# Altium schematic symbol library SBComponentsSchematics.SchLib: 68 symbols
Pins are listed as number, name and electrical type; pins without a type are passive.

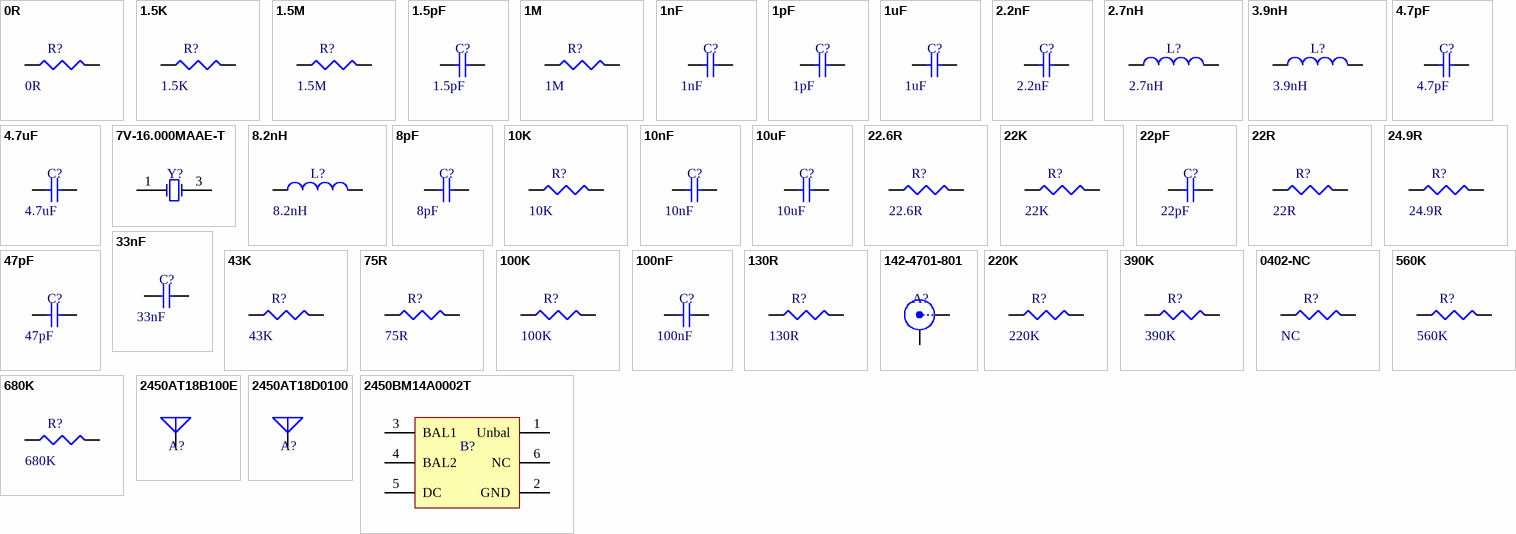
[diagram p0: symbols 0R to 2450BM14A0002T]

## 0R
designator R?
0R 0402 1/16W ±0.05R; Supplier 1: Farnell; Supplier 2: Digi-Key; Supplier Part Number 1: 2072513; Supplier Part Number 2: P0.0JCT-ND; Value: 0R
footprint 0402 (Chip Body 1.0 x 0.5 mm (LxW typ))
footprint 0603 (Chip Body 1.6 x 0.8 mm (LxW typ))
pins: 1, 2

## 1.5K
designator R?
1.5K 0402 1/16W ±1%; Supplier 1: Farnell; Supplier Part Number 1: 1653201; Supplier 2: Digi-Key; Supplier Part Number 2: 541-1.50KLCT-ND; Value: 1.5K
footprint 0402 (Chip Body 1.0 x 0.5 mm (LxW typ))
pins: 1, 2

## 1.5M
designator R?
1.5M 0402 1/16W ±1%; Supplier 1: Farnell; Supplier Part Number 1: 2141473; Supplier 2: Digi-Key; Supplier Part Number 2: 541-1.50MLCT-ND; Value: 1.5M
footprint 0402 (Chip Body 1.0 x 0.5 mm (LxW typ))
pins: 1, 2

## 1.5pF
designator C?
1.5pF 0402 NP0/CG0 50V ±0.1pF; Supplier 1: Farnell; Supplier 2: Digi-Key; Supplier Part Number 1: 2456092; Supplier Part Number 2: 490-6212-1-ND; Value: 1.5pF
footprint 0402 (Chip Body 1.0 x 0.5 mm (LxW typ))
pins: 1, 2

## 1M
designator R?
1M 0402 1/16W ±1%; Supplier 1: Farnell; Supplier Part Number 1: 2072521; Supplier 2: Digi-Key; Supplier Part Number 2: P1.00MLCT-ND; Value: 1M
footprint 0402 (Chip Body 1.0 x 0.5 mm (LxW typ))
pins: 1, 2

## 1nF
designator C?
1nF 0402 NP0 50V ±5%; Supplier 1: Farnell; Supplier 2: Digi-Key; Supplier 3: Mouser; Supplier Part Number 1: 8819556; Supplier Part Number 2: 490-3244-1-ND; Supplier Part Number 3: 81-GRM1555C1H102JA1D; Value: 1nF
footprint 0402 (Chip Body 1.0 x 0.5 mm (LxW typ))
pins: 1, 2

## 1pF
designator C?
1pF 0402 NP0/CG0 50V ±0.1pF; Supplier 1: Digi-Key; Supplier Part Number 1: 490-6206-1-ND; Value: 1pF
footprint 0402 (Chip Body 1.0 x 0.5 mm (LxW typ))
pins: 1, 2

## 1uF
designator C?
1uF 0603 X5R 10V ±10%; Supplier 1: Farnell; Supplier Part Number 1: 1759399; Supplier 2: Digi-Key; Supplier Part Number 2: 478-1251-1-ND; Value: 1uF
footprint 0603 (Chip Body 1.6 x 0.8 mm (LxW typ))
pins: 1, 2

## 2.2nF
designator C?
2.2nF 0402 X7R 50V ±10%; Supplier 1: Farnell; Supplier 2: Digi-Key; Supplier Part Number 1: 1414582; Supplier Part Number 2: 399-3068-1-ND; Value: 2.2nF
footprint 0402 (Chip Body 1.0 x 0.5 mm (LxW typ))
pins: 1, 2

## 2.7nH
designator L?
2.7nH ±0.1nH 0402; Supplier 1: Farnell; Supplier 2: Digi-Key; Supplier Part Number 1: 2103074; Supplier Part Number 2: 445-16287-1-ND; Value: 2.7nH
footprint 0402 (Chip Body 1.0 x 0.5 mm (LxW typ))
pins: 1, 2

## 3.9nH
designator L?
3.9nH ±0.1nH 0402; Supplier 1: Farnell; Supplier Part Number 1: 2103086; Supplier 2: Digi-Key; Supplier Part Number 2: 445-16303-1-ND; Value: 3.9nH
footprint 0402 (Chip Body 1.0 x 0.5 mm (LxW typ))
pins: 1, 2

## 4.7pF
designator C?
4.7pF 0402 NP0/CG0 50V ±0.25pF; Supplier 1: Farnell; Supplier 2: Digi-Key; Supplier Part Number 1: 2434644; Supplier Part Number 2: 490-5874-1-ND; Value: 4.7pF
footprint 0402 (Chip Body 1.0 x 0.5 mm (LxW typ))
pins: 1, 2

## 4.7uF
designator C?
4.7uF 0603 X5R 10V ±10%; Supplier 1: Farnell; Supplier Part Number 1: 2362098; Supplier 2: Digi-Key; Supplier Part Number 2: 445-5170-1-ND; Value: 4.7uF
footprint 0603 (Chip Body 1.6 x 0.8 mm (LxW typ))
pins: 1, 2

## 7V-16.000MAAE-T
designator Y?
TXC - 7V-16.000MAAE-T, 16MHZ, 30PPM, 12PF - CRYSTAL; Supplier 1: Digi-Key; Supplier 2: Farnell; Supplier Part Number 1: 887-1462-1-ND; Supplier Part Number 2: 1892172
footprint 3.2x2.5 CRYSTAL
pins: 1 X1, 2 GND hidden to GND, 3 X2, 4 GND hidden to GND

## 8.2nH
designator L?
8.2nH ±0.2nH 0402; Supplier 1: Farnell; Supplier 2: Digi-Key; Supplier Part Number 1: 1174124; Supplier Part Number 2: PCD1909CT-ND; Value: 8.2nH
footprint 0402 (Chip Body 1.0 x 0.5 mm (LxW typ))
pins: 1, 2

## 8pF
designator C?
8pF 0402 C0G/NP0 50V ±0.5pF; Supplier 1: Farnell; Supplier 2: Digi-Key; Supplier Part Number 1: 1758939; Supplier Part Number 2: 490-5867-1-ND; Value: 8pF
footprint 0402 (Chip Body 1.0 x 0.5 mm (LxW typ))
pins: 1, 2

## 10K
designator R?
10K 0402 1/16W ±1%; Supplier 1: Farnell; Supplier Part Number 1: 2072517; Supplier 2: Digi-Key; Supplier Part Number 2: 541-10.0KLCT-ND; Value: 10K
footprint 0402 (Chip Body 1.0 x 0.5 mm (LxW typ))
pins: 1, 2

## 10nF
designator C?
10nF 0402 X7R 25V ±5%; Supplier 1: Farnell; Supplier Part Number 1: 1692285; Supplier 2: Digi-Key; Supplier Part Number 2: 399-1279-1-ND; Value: 10nF
footprint 0402 (Chip Body 1.0 x 0.5 mm (LxW typ))
pins: 1, 2

## 10uF
designator C?
10uF 0603 X5R 6.3V ±20%; Supplier 1: Farnell; Supplier Part Number 1: 2456110; Supplier 2: Digi-Key; Supplier Part Number 2: 490-10475-1-ND; Value: 10uF
footprint 0603 (Chip Body 1.6 x 0.8 mm (LxW typ))
pins: 1, 2

## 22.6R
designator R?
22.6R 0402 1/16W ±0.05R; Supplier 1: Farnell; Supplier 2: Digi-Key; Supplier Part Number 1: 2302454; Supplier Part Number 2: P22.6LCT-ND; Value: 22.6R
footprint 0402 (Chip Body 1.0 x 0.5 mm (LxW typ))
pins: 1, 2

## 22K
designator R?, comment value 22K  (hidden comment: 22K 0402 1/16W ±1%)
Supplier 1: Farnell; Supplier 2: Digi-Key; Supplier Part Number 1: 2072781; Supplier Part Number 2: 541-22.0KLCT-ND
footprint 0402 (Chip Body 1.0 x 0.5 mm (LxW typ))
pins: 1, 2

## 22pF
designator C?
22pF 0402 NP0/CG0 50V ±5%; Supplier 1: Farnell; Supplier 2: Digi-Key; Supplier Part Number 1: 1414580; Supplier Part Number 2: 490-5868-1-ND; Value: 22pF
footprint 0402 (Chip Body 1.0 x 0.5 mm (LxW typ))
pins: 1, 2

## 22R
designator R?
22R 0402 1/16W ±1%; Supplier 1: Farnell; Supplier 2: Digi-Key; Supplier Part Number 1: 2072797; Supplier Part Number 2: 541-22.0LCT-ND; Value: 22R
footprint 0402 (Chip Body 1.0 x 0.5 mm (LxW typ))
pins: 1, 2

## 24.9R
designator R?
24.9R 0402 1/16W ±0.05R; Supplier 1: Farnell; Supplier 2: Digi-Key; Supplier Part Number 1: 2059102; Supplier Part Number 2: P24.9LCT-ND; Value: 24.9R
footprint 0402 (Chip Body 1.0 x 0.5 mm (LxW typ))
pins: 1, 2

## 33nF
designator C?
33nF 0402 X7R 50V ±10%; Supplier 1: Farnell; Supplier 2: Digi-Key; Supplier Part Number 1: 2210826; Supplier Part Number 2: 445-7334-1-ND; Value: 33nF
footprint 0402 (Chip Body 1.0 x 0.5 mm (LxW typ))
pins: 1, 2

## 43K
designator R?
43K 0402 1/16W ±1%; Supplier 1: Farnell; Supplier Part Number 1: 1358086; Supplier 2: Digi-Key; Supplier Part Number 2: 541-43.0KLCT-ND; Value: 43K
footprint 0402 (Chip Body 1.0 x 0.5 mm (LxW typ))
pins: 1, 2

## 47pF
designator C?
47pF 0402 NP0 50V ±5%; Supplier 1: Farnell; Supplier 2: Digi-Key; Supplier 3: Mouser; Supplier Part Number 1: 2434611; Supplier Part Number 2: 490-5942-1-ND; Supplier Part Number 3: 81-GRM1555C1H470JA1D; Value: 47pF
footprint 0402 (Chip Body 1.0 x 0.5 mm (LxW typ))
pins: 1, 2

## 75R
designator R?
75R 0402 1/16W ±1%; Supplier 1: Farnell; Supplier 2: Digi-Key; Supplier Part Number 1: 1458822; Supplier Part Number 2: 311-75.0LRCT-ND; Value: 75R
footprint 0402 (Chip Body 1.0 x 0.5 mm (LxW typ))
pins: 1, 2

## 100K
designator R?
100K 0402 1/16W ±1%; Supplier 1: Farnell; Supplier Part Number 1: 2072519; Supplier 2: Digi-Key; Supplier Part Number 2: 541-100KLCT-ND; Value: 100K
footprint 0402 (Chip Body 1.0 x 0.5 mm (LxW typ))
pins: 1, 2

## 100nF
designator C?
100nF 0402 X7R 16V ±10%; Supplier 1: Farnell; Supplier Part Number 1: 1288252; Supplier 2: Digi-Key; Supplier Part Number 2: 399-3521-1-ND; Value: 100nF
footprint 0402 (Chip Body 1.0 x 0.5 mm (LxW typ))
pins: 1, 2

## 130R
designator R?
130R 0402 1/16W ±0.05R; Supplier 1: Farnell; Supplier 2: Digi-Key; Supplier Part Number 1: 2059115; Supplier Part Number 2: P130LCT-ND; Value: 130R
footprint 0402 (Chip Body 1.0 x 0.5 mm (LxW typ))
pins: 1, 2

## 142-4701-801
designator A?  (value not drawn)
JOHNSON  142-4701-801  SMA FEMELLE REVERSE POLARITY TERMINAISON; Supplier 1: Farnell; Supplier Part Number 1: 2340523; Supplier 2: Digi-Key; Supplier Part Number 2: J917-ND
footprint 142-4701-801
pins: 1 X, 2 Y

## 220K
designator R?  value 220K
220K 0402 1/16W ±1%; Supplier 1: Farnell; Supplier 2: Digi-Key; Supplier Part Number 1: 9239510; Supplier Part Number 2: 311-220KLRCT-ND; Supplier 3: Mouser; Supplier Part Number 3: 603-RC0402FR-07220KL
footprint 0402 (Chip Body 1.0 x 0.5 mm (LxW typ))
pins: 1, 2

## 390K
designator R?  value 390K
390K 0402 1/16W ±1%; Supplier 1: Farnell; Supplier 2: Digi-Key; Supplier Part Number 1: 2302905; Supplier Part Number 2: P390KLCT-ND; Supplier 3: Mouser; Supplier Part Number 3: 667-ERJ-2RKF3903X
footprint 0402 (Chip Body 1.0 x 0.5 mm (LxW typ))
pins: 1, 2

## 0402-NC
designator R?  value NC  (hidden comment: 0402-NC)
NOT CONNECTED
footprint 0402 - NOBODY (Chip Body 1.0 x 0.5 mm (LxW typ))
pins: 1, 2

## 560K
designator R?
560K 0402 1/16W ±1%; Supplier 1: Farnell; Supplier Part Number 1: 2074116; Supplier 2: Digi-Key; Supplier Part Number 2: 311-560KLRCT-ND; Value: 560K
footprint 0402 (Chip Body 1.0 x 0.5 mm (LxW typ))
pins: 1, 2

## 680K
designator R?  value 680K
680K 0402 1/16W ±1%; Supplier 1: Farnell; Supplier 2: Digi-Key; Supplier Part Number 1: 2302935; Supplier Part Number 2: P680KLCT-ND; Supplier 3: Mouser; Supplier Part Number 3: 667-ERJ-2RKF6803X
footprint 0402 (Chip Body 1.0 x 0.5 mm (LxW typ))
pins: 1, 2

## 2450AT18B100E
designator A?  (value not drawn)
JOHANSON TECHNOLOGY 2450AT18B100E  ANTENNA, CERAMIC, 2.45GHZ; Supplier 1: Farnell; Supplier Part Number 1: 1885497; Supplier 2: Digi-Key; Supplier Part Number 2: 712-1006-1-ND
footprint 2450AT18B100E (ANTENNA CHIP 2.4GHZ)
pins: 1 A

## 2450AT18D0100
designator A?  (value not drawn)
JOHANSON TECHNOLOGY 2450AT18D0100  ANTENNA, CERAMIC, 2.45GHZ; Supplier 1: Mouser; Supplier 2: Digi-Key; Supplier Part Number 1: 609-2450AT18D0100E; Supplier Part Number 2: 712-1573-1-ND
footprint 2450AT18D0100 (ANTENNA CHIP 2.4GHZ)
pins: 1 A, 2 GND hidden to GND

## 2450BM14A0002T
designator B?  (value not drawn)
Johanson Technology Impedance Matched Balun Filter Integrated Passive for nRF24L01; Supplier 1: Farnell; Supplier 2: Digi-Key; Supplier Part Number 1: 2148533; Supplier Part Number 2: 712-1574-1-ND
footprint 2450BM14A0002 (2.45 GHz Impedance Matched Balun-Filter: Optimized for Nordic's Chipset nRF24L01)
pins: 1 Unbal, 2 GND, 3 BAL1, 4 BAL2, 5 DC, 6 NC

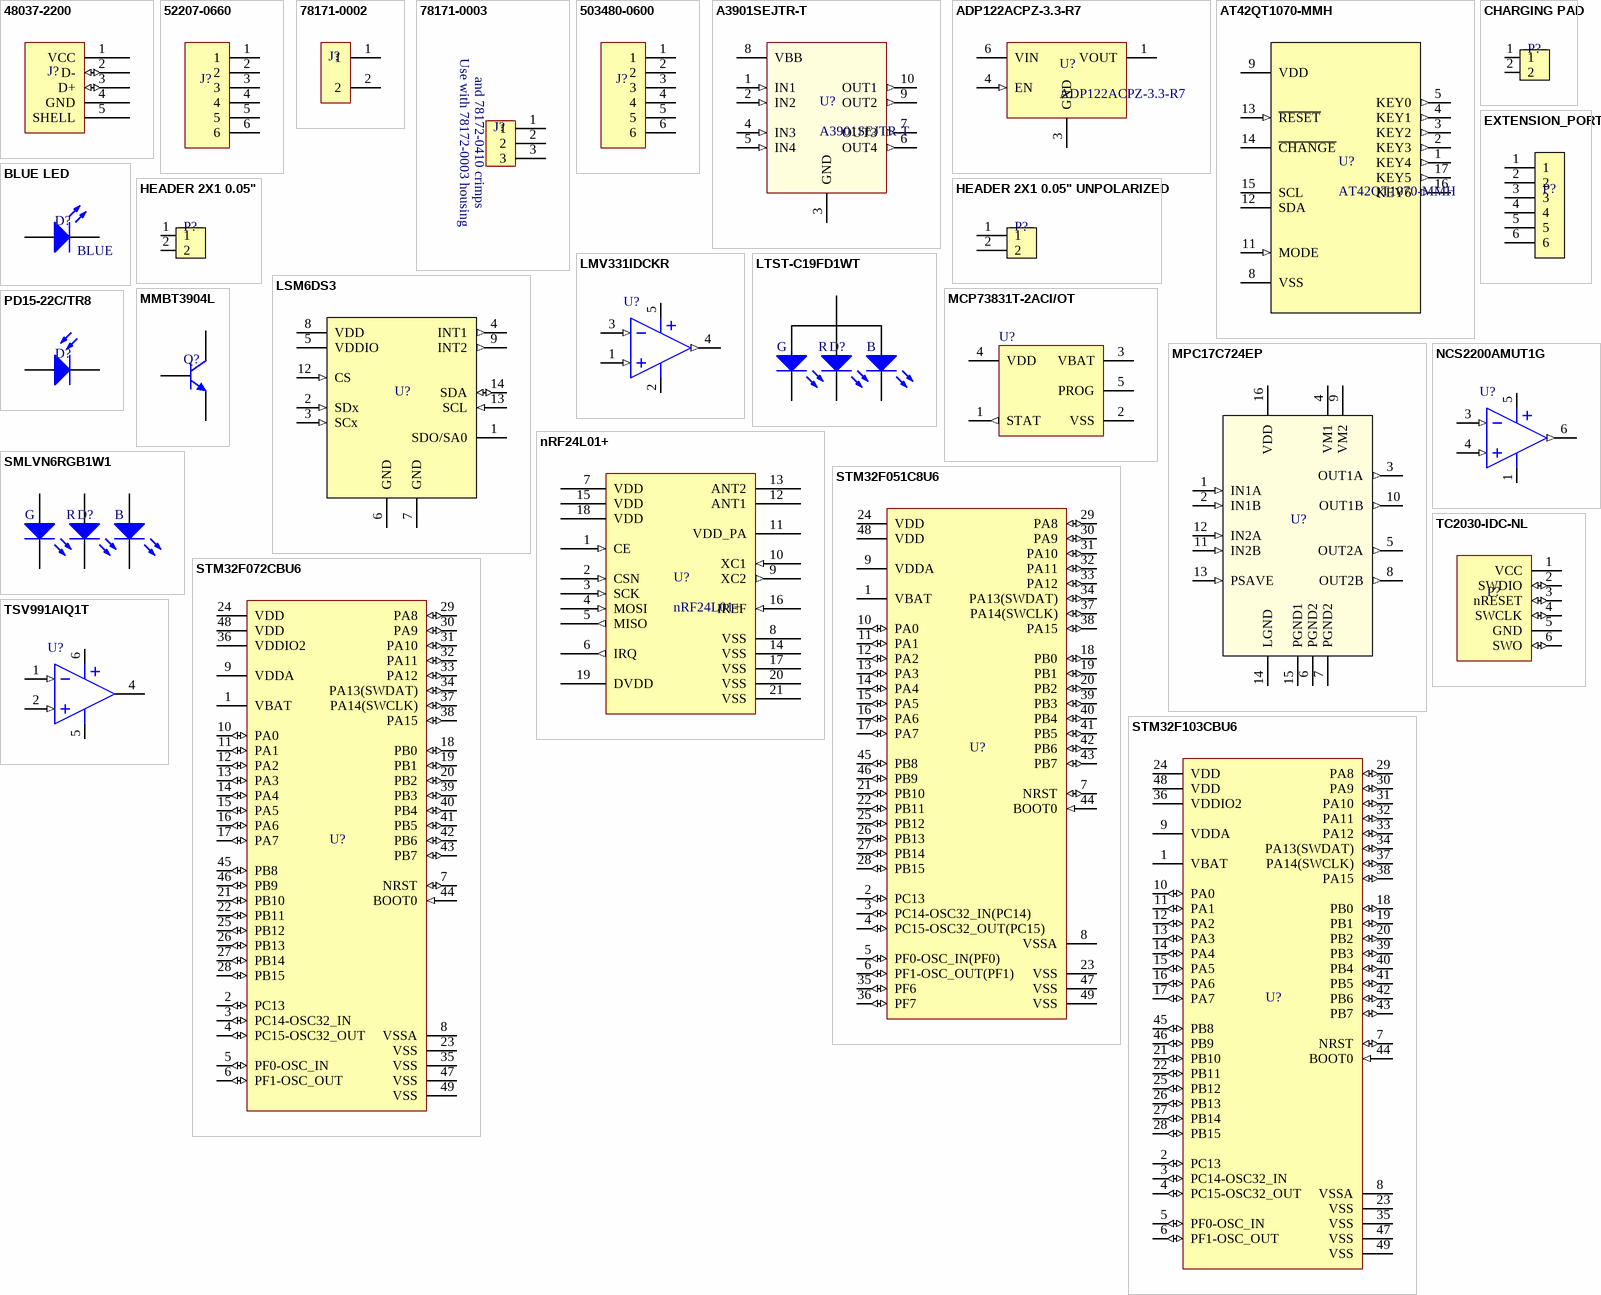
[diagram p1: symbols 48037-2200 to TSV991AIQ1T]

## 48037-2200
designator J?  (value not drawn)
Molex USB 2.0 Connector Plug USB Type A; Supplier 1: Farnell; Supplier 2: Digi-Key; Supplier Part Number 1: 2313729; Supplier Part Number 2: WM3983CT-ND
footprint 48037-2200 (Molex 48037-2200 USB Type A Receptacle)
pins: 1 VCC (power), 2 D- (io), 3 D+ (io), 4 GND (power), 5 SHELL (power)

## 52207-0660
designator J?  (value not drawn)
Easy-On™ Type FFC/FPC Connector, Right-Angle, Surface Mount, ZIF, Top Contact Style Receptacle, 6 Circuits, Gold (Au) Contact Plating, High Barrier Packaging; Supplier 1: Farnell; Supplier 2: Digi-Key; Supplier Part Number 1: 1757074; Supplier Part Number 2: WM10939CT-ND
pins: 1, 2, 3, 4, 5, 6

## 78171-0002
designator J?  (value not drawn)
Molex Pico-EZmate™ Wire-to-Board Header, 2 contacts; Supplier 1: Farnell; Supplier 2: Digi-Key; Supplier Part Number 1: 2313710; Supplier Part Number 2: WM4459CT-ND
footprint 78171-0002
pins: 1, 2

## 78171-0003
designator J?  (value not drawn)
Molex Pico-EZmate™ Wire-to-Board Header, 3 contacts; Supplier 1: Farnell; Supplier 2: Digi-Key; Supplier Part Number 1: 2313562; Supplier Part Number 2: WM5409CT-ND
footprint 78171-0003
pins: 1, 2, 3
text: Use with 78172-0003 housing; and 78172-0410 crimps

## 503480-0600
designator J?  (value not drawn)
Molex 0.50mm Pitch Easy-On™ BackFlip™ Type FPC Connector, 6 contacts; Supplier 1: Farnell; Supplier 2: Digi-Key; Supplier Part Number 1: 2396222; Supplier Part Number 2: WM1387CT-ND
footprint 503480-0600
pins: 1, 2, 3, 4, 5, 6

## A3901SEJTR-T
designator U?
ALLEGRO MICROSYSTEMS - A3901SEJTR-T - IC, MOTOR DRIVER; Supplier 1: Farnell; Supplier 2: Digi-Key; Supplier Part Number 1: 1651947; Supplier Part Number 2: 620-1159-1-ND
footprint DFN50P300X300X75_HS-11N
pins: 1 IN1 (in), 2 IN2 (in), 3 GND (power), 4 IN3 (in), 5 IN4 (in), 6 OUT4 (out), 7 OUT3 (out), 8 VBB (power), 9 OUT2 (out), 10 OUT1 (out), 11 PAD (power) hidden to GND

## ADP122ACPZ-3.3-R7
designator U?
Analog Devices ADP122ACPZ-3.3-R7 - 5.5 V Input, 300 mA, Low Quiescent  Current, CMOS Linear Regulator; Supplier 1: Farnell; Supplier 2: Digi-Key; Supplier Part Number 1: 2457164; Supplier Part Number 2: ADP122ACPZ-3.3-R7CT-ND
footprint LFCSP-6 2.0X2.0X0.55 (. 6-Lead Lead Frame Chip Scale Package [LFCSP_UD]  2.00 mm× 2.00 mm Body, Ultra Thin, Dual Lead  (CP-6-3))
pins: 1 VOUT (power) "Regulated Output Voltage.", 2 NC hidden to GND "No Connect. These pins are not internally bonded. They can be left floating or connected  to ground.", 3 GND (power) "Ground", 4 EN (in) "N Enable Input. Drive EN high to turn on the regulator; drive EN low to turn off the  regulator. For automatic startup, connect EN to VIN.", 5 NC hidden to GND "No Connect. These pins are not internally bonded. They can be left floating or connected  to ground.", 6 VIN (power) "Regulator Input Supply.", 7 THPAD hidden to GND "Thermal Pad"

## AT42QT1070-MMH
designator U?
Atmel Seven-channel QTouch® Touch Sensor IC; Supplier 1: Digi-Key; Supplier Part Number 1: AT42QT1070-MMHCT-ND
footprint QFN45P300X300X85_HS-21L (QFN, 20-Leads, Body 3.00x3.00mm, Pitch 0.45mm, Thermal Pad 1.55x1.55mm, IPC High Density)
pins: 1 KEY4 (out), 2 KEY3 (out), 3 KEY2 (out), 4 KEY1 (out), 5 KEY0 (out), 6 NC hidden, 7 NC hidden, 8 VSS (power), 9 VDD (power), 10 NC hidden, 11 MODE (in), 12 SDA (oc), 13 ~{RESET} (in), 14 ~{CHANGE} (oc), 15 SCL (oc), 16 KEY6 (out), 17 KEY5 (out), 18 NC hidden, 19 NC hidden, 20 NC hidden, 21 PAD (power) hidden to GND

## BLUE LED
designator D?  value BLUE
BRIGHT BLUE LED 20mA; Supplier 1: Farnell; Supplier Part Number 1: 1716770; Supplier 2: Digi-Key; Supplier Part Number 2: 160-1646-1-ND
footprint 0603 - LED (Chip Body 1.6 x 0.8 mm (LxW typ))
pins: 1 A, 2 K

## CHARGING PAD
designator P?  (value not drawn)
footprint Charging Pad
pins: 1, 2

## EXTENSION_PORT
designator P?  (value not drawn)
footprint EXTENSION_PORT
pins: 1, 2, 3, 4, 5, 6

## HEADER 2X1 0.05"
designator P?  (value not drawn)
footprint HEADER 2X1 0.05" (Footprint not found)
pins: 1, 2

## HEADER 2X1 0.05" UNPOLARIZED
designator P?  (value not drawn)
footprint HEADER 2X1 0.05" - UNPOLARIZED
pins: 1, 2

## LMV331IDCKR
designator U?
TI LMV331 Single General-purpose Low-voltage Comparators; Supplier 1: Farnell; Supplier 2: Mouser; Supplier 3: Digi-Key; Supplier Part Number 1: 2395896; Supplier Part Number 2: 595-LMV331IDCKR; Supplier Part Number 3: 296-6634-1-ND
footprint SC70-5
pins: 1 IN+ (in), 2 GND (power), 3 IN- (in), 4 OUT (out), 5 VCC (power)

## LSM6DS3
designator U?
STMicroelectronics iNEMO inertial module:   3D accelerometer and 3D gyroscope; Supplier 1: Farnell; Supplier 2: Digi-Key; Supplier Part Number 1: 2474253; Supplier Part Number 2: 497-15383-1-ND
footprint LGA-14 2.5x3x0.86 mm 14L (LGA, 14-Leads, Body 3.00x2.50mm, Pitch 0.50mm, IPC High Density)
pins: 1  SDO/SA0 (power), 2 SDx (in), 3 SCx (in), 4 INT1 (out), 5 VDDIO (power), 6 GND (power), 7 GND (power), 8 VDD (power), 9 INT2 (out), 10 OCS hidden, 11 NC hidden, 12 CS (in), 13 SCL (in), 14 SDA (io)

## LTST-C19FD1WT
designator D?
Lite-On Inc. LTST-C19FD1WT; Supplier 1: Digi-Key; Supplier Part Number 1: 160-2022-1-ND
footprint 2.1X1.6X0.55_4SMD
pins: 1 KB, 2 KR, 3 KG, 4 A
text: G; R; B

## MCP73831T-2ACI/OT
designator U?
Miniature Single-Cell, Fully Integrated Li-Ion, Li-Polymer Charge Management Controller, 4.2V, 5-Pin SOT-23, Industrial Temperature, Tape and Reel; Published: 29-Jan-2009; LatestRevisionDate: 27-Nov-2009; LatestRevisionNote: Updated to datasheet revision E, Sep-2008; DatasheetVersion: revE, Sep-2008; PackageVersion: revBB, Aug-2009; PackageReference: SOT-23-OT5; Publisher: Altium Limited; PackageDescription: 5-Lead Plastic Small Outline Transistor (OT) [SOT-23]; Code_IPC: SOT23-5; ComponentLink1Description: Datasheet; ComponentLink1URL: http://ww1.microchip.com/downloads/en/DeviceDoc/21984e.pdf; ComponentLink2Description: Packaging Specification; ComponentLink2URL: http://www.microchip.com/stellent/groups/techpub_sg/documents/packagingspec/en012702.pdf; ComponentLink3Description: Microchip.com Home; ComponentLink3URL: http://www.microchip.com/; Supplier 1: Farnell; Supplier Part Number 1: 1332158
footprint SOT-23-OT5_N (SOT23, 5-Leads, Body 2.9x1.6mm, Pitch 0.95mm, Lead Span 2.7mm, IPC Medium Density)
footprint SOT-23-OT5_L (SOT23, 5-Leads, Body 2.9x1.6mm, Pitch 0.95mm, Lead Span 2.7mm, IPC High Density)
footprint SOT-23-OT5_M (SOT23, 5-Leads, Body 2.9x1.6mm, Pitch 0.95mm, Lead Span 2.7mm, IPC Low Density)
pins: 1 STAT (out), 2 VSS (power), 3 VBAT (power), 4 VDD (power), 5 PROG

## MMBT3904L
designator Q?  (value not drawn)
On Semiconductor MMBT3904L General Purpose Transistor  NPN Silicon; Supplier 1: Farnell; Supplier 2: Digi-Key; Supplier Part Number 1: 1459100; Supplier Part Number 2: MMBT3904LT1GOSCT-ND
footprint SOT23_L (SOT23, 3-Leads, Body 2.9x1.3mm, Pitch 0.95mm, Lead Span 2.3mm - Reverse Pinning, IPC High Density)
pins: 1 B, 2 E, 3 C

## MPC17C724EP
designator U?
Fresscale Semiconductor MPC17C724EP 0.4 A Dual H-Bridge Motor Driver IC; Supplier 1: Digi-Key; Supplier Part Number 1: MPC17C724EP-ND
footprint QFN50P300X300X90_HS-17L (QFN, 16-Leads, Body 3,00x3,00mm, Pitch 0,50mm, Thermal Pad 1,70x1,70mm, IPC High Density)
pins: 1 IN1A (in) "Logic Input Control 1A", 2 IN1B (in) "Logic Input Control 2A", 3 OUT1A (out) "H-Bridge Output 1A", 4 VM1 (power) "Motor Driver Power Supply 1", 5 OUT2A (out) "H-Bridge Output 2A", 6 PGND2 "Power Ground 2", 7 PGND2 "Power Ground 2", 8 OUT2B (out) "H-Bridge Output 2B", 9 VM2 (power) "Motor Driver Power Supply 2", 10 OUT1B (out) "H-Bridge Output 1B", 11 IN2B (in) "Logic Input Control 2B", 12 IN2A (in) "Logic Input Control 2A", 13 PSAVE (in) "Input Enable Control", 14 LGND "Logic Ground", 15 PGND1 "Power Ground 1", 16 VDD (power) "Logic Circuit Power Supply"

## NCS2200AMUT1G
designator U?
Low Voltage Comparator; Supplier 1: Farnell; Supplier 2: Mouser; Supplier 3: Digi-Key; Supplier Part Number 1: 1369752; Supplier Part Number 2: 863-NCS2200AMUT1G; Supplier Part Number 3: NCS2200AMUT1GOSCT-ND
footprint UDFN6-1.2x1.0
pins: 1 GND (power), 3 IN- (in), 4 IN+ (in), 5 VCC (power), 6 OUT (out)

## nRF24L01+
designator U?
Nordic Semi Ultra low power 2.4GHz RF Transceiver IC; Supplier 1: Digi-Key; Supplier Part Number 1: 1490-1033-1-ND
footprint QFN50P400X400X95_HS-21L (QFN, 20-Leads, Body 4,00x4,00mm, Pitch 0,50mm, Thermal Pad 2,60x2,60mm, IPC High Density)
pins: 1 CE (in) "Chip Enable Activates RX or TX mode", 2 CSN (in) "SPI Chip Select", 3 SCK (in) "SPI Clock", 4 MOSI (in) "SPI Slave Data Input", 5 MISO (out) "SPI Slave Data Output, with tri-state option", 6 IRQ (out) "Maskable interrupt pin. Active low", 7 VDD (power) "Power Supply (+1.9V - +3.6V DC)", 8 VSS (power) "Ground (0V)", 9 XC2 (out) "Crystal Pin 2", 10 XC1 (in) "Crystal Pin 1", 11 VDD_PA (power) "Power Supply Output (+1.8V) for the internal  nRF24L01+ Power Amplifier. Must be connected  to ANT1 and ANT2 as shown in Figure 32", 12 ANT1 "Antenna interface 1", 13 ANT2 "Antenna interface 1", 14 VSS (power) "Ground (0V)", 15 VDD (power) "Power Supply (+1.9V - +3.6V DC)", 16 IREF (in) "Reference current. Connect a 22kΩ resistor to  ground. See Figure 32.", 17 VSS (power) "Ground (0V)", 18 VDD (power) "Power Supply (+1.9V - +3.6V DC)", 19 DVDD (power) "Internal digital supply output for de-coupling purposes.  See Figure 32.", 20 VSS (power) "Ground (0V)", 21 VSS (power) "Ground (0V) - Thermal Pad"

## PD15-22C/TR8
designator D?  (value not drawn)
Everlight PD15-22C/TR8 Silicon PIN Photodiode; Supplier 1: Digi-Key; Supplier Part Number 1: 1080-1367-1-ND; Supplier 2: Mouser; Supplier Part Number 2: 638-PD15-22C/TR8
footprint PD15-22C/TR8 (Silicon PIN Photodiode)
pins: 1 A, 2 K

## SMLVN6RGB1W1
designator D?
ROHM SMLVN6RGB1W1 LED Tri-Color Blue/Green/Red Chip LED 6-Pin 1411 T/RLED Tri-Color Blue/Green/Red Chip LED 6-Pin 1411; Supplier 1: Mouser; Supplier 2: Digi-Key; Supplier Part Number 1: 755-SMLVN6RGB1W1; Supplier Part Number 2: 846-1187-1-ND
footprint 3.5x2.8 mm 6-SMD (3.5 x 2.8 mm 6-SMD Flat Leads)
pins: 1 AB, 2 AR, 3 AG, 4 KG, 5 KR, 6 KB
text: G; R; B

## STM32F051C8U6
designator U?
STMICROELECTRONICS  STM32F051C8U6  MCU 32BIT CORTEX-M0 48MHZ UFQFPN-48; Supplier 1: Farnell; Supplier 2: Digi-Key; Supplier Part Number 1: 2393638; Supplier Part Number 2: STM32F051C8U6-ND
footprint QFN50P700X700X60_HS-49L (QFN, 48-Leads, Body 7,00x7,00mm, Pitch 0,50mm, Thermal Pad 5,60x5,60mm, IPC High Density)
pins: 1 VBAT (power) "Backup power supply", 2 PC13 (io) "PC13/RTC_TAMP1,RTC_TS,RTC_OUT,WKUP2", 3 PC14-OSC32_IN(PC14) (io) "PC14-OSC32_IN(PC14)/OSC32_IN", 4 PC15-OSC32_OUT(PC15) (io) "PC15-OSC32_OUT(PC15)/OSC32_OUT", 5 PF0-OSC_IN(PF0) (io) "PF0-OSC_IN(PF0)/OSC_IN", 6 PF1-OSC_OUT(PF1) (io) "PF1-OSC_OUT(PF1)/OSC_OUT", 7 NRST (io) "Device  reset  input  /  internal  reset  output  (active  low)", 8 VSSA (power) "Analog ground", 9 VDDA (power) "Analog power supply", 10 PA0 (io) "PA0/USART2_CTS,TIM2_CH1_ETR,COMP1_OUT,TSC_G1_IO1/ADC_IN0,COMP1_INM6,RTC_TAMP2,WKUP1", 11 PA1 (io) "PA1/USART2_RTS,TIM2_CH2,TSC_G1_IO2,EVENTOUT/ADC_IN1,COMP1_INP", 12 PA2 (io) "PA2/USART2_TX,TIM2_CH3,TIM15_CH1,COMP2_OUT,TSC_G1_IO3/ADC_IN2,COMP2_INM6", 13 PA3 (io) "PA3/USART2_RX,TIM2_CH4,TIM15_CH2,TSC_G1_IO4/ADC_IN3,COMP2_INP", 14 PA4 (io) "PA4/SPI1_NSS/I2S1_WS,USART2_CK,TIM14_CH1,TSC_G2_IO1/ADC_IN4,COMP1_INM4,COMP2_INM4,DAC1_OUT", 15 PA5 (io) "PA5/SPI1_SCK/I2S1_CK,CEC,TIM2_CH1_ETR,TSC_G2_IO2/ADC_IN5,COMP1_INM5,COMP2_INM5", 16 PA6 (io) "PA6/SPI1_MISO/I2S1_MCK,TIM3_CH1,TIM1_BKIN,TIM16_CH1,COMP1_OUT,TSC_G2_IO3,EVENTOUT/ADC_IN6", 17 PA7 (io) "PA7/SPI1_MOSI/I2S1_SD,TIM3_CH2,TIM14_CH1,TIM1_CH1N,TIM17_CH1,COMP2_OUT,TSC_G2_IO4,EVENTOUT/ADC_IN7", 18 PB0 (io) "PB0/TIM3_CH3,TIM1_CH2N,TSC_G3_IO2,EVENTOUT/ADC_IN8", 19 PB1 (io) "PB1/TIM3_CH4,TIM14_CH1,TIM1_CH3N,TSC_G3_IO3/ADC_IN9", 20 PB2 (io) "PB2/TSC_G3_IO4", 21 PB10 (io) "PB10/I2C2_SCL,CEC,TIM2_CH3,TSC_SYNC", 22 PB11 (io) "PB11/I2C2_SDA,TIM2_CH4,TSC_G6_IO1,EVENTOUT", 23 VSS (power) "Ground", 24 VDD (power) "Digital power supply", 25 PB12 (io) "PB12/SPI2_NSS,TIM1_BKIN,TSC_G6_IO2,EVENTOUT", 26 PB13 (io) "PB13/SPI2_SCK,TIM1_CH1N,TSC_G6_IO3", 27 PB14 (io) "PB14/SPI2_MISO,TIM1_CH2N,TIM15_CH1,TSC_G6_IO4", 28 PB15 (io) "PB15/SPI2_MOSI,TIM1_CH3N,TIM15_CH1N,TIM15_CH2/RTC_REFIN", 29 PA8 (io) "PA8/USART1_CK,TIM1_CH1,EVENTOUT,MCO", 30 PA9 (io) "PA9/USART1_TX,TIM1_CH2,TIM15_BKIN,TSC_G4_IO1", 31 PA10 (io) "PA10/USART1_RX,TIM1_CH3,TIM17_BKIN,TSC_G4_IO2", 32 PA11 (io) "PA11/USART1_CTS,TIM1_CH4,COMP1_OUT,TSC_G4_IO3,EVENTOUT", 33 PA12 (io) "PA12/USART1_RTS,TIM1_ETR,COMP2_OUT,TSC_G4_IO4,EVENTOUT", 34 PA13(SWDAT) (io) "PA13(SWDAT)/IR_OUT,SWDAT", 35 PF6 (io) "PF6/I2C2_SCL", 36 PF7 (io) "PF7/I2C2_SDA", 37 PA14(SWCLK) (io) "PA14(SWCLK)/USART2_TX,SWCLK", 38 PA15 (io) "PA15/SPI1_NSS/I2S1_WS,USART2_RX,TIM2_CH1_ETR,EVENTOUT", 39 PB3 (io) "PB3/SPI1_SCK/I2S1_CK,TIM2_CH2,TSC_G5_IO1,EVENTOUT", 40 PB4 (io) "PB4/SPI1_MISO/I2S1_MCK,TIM3_CH1,TSC_G5_IO2,EVENTOUT", 41 PB5 (io) "PB5/SPI1_MOSI,I2S1_SD,I2C1_SMBA,TIM16_BKIN,TIM3_CH2", 42 PB6 (io) "PB6/I2C1_SCL,USART1_TX,TIM16_CH1N,TSC_G5_IO3", 43 PB7 (io) "PB7/I2C1_SDA,USART1_RX,TIM17_CH1N,TSC_G5_IO4", 44 BOOT0 (in) "Boot memory selection", 45 PB8 (io) "PB8/I2C1_SCL,CEC,TIM16_CH1,TSC_SYNC", 46 PB9 (io) "PB9/I2C1_SDA,IR_OUT,TIM17_CH1,EVENTOUT", 47 VSS (power) "Ground", 48 VDD (power) "Digital power supply", 49 VSS (power) "Grounded Thermal Pad"

## STM32F072CBU6
designator U?
STMICROELECTRONICS  STM32F072CBU6  MCU 32 BITS CORTEX-M0 48MHZ UFQFPN-48; Supplier 1: Farnell; Supplier 2: Digi-Key; Supplier Part Number 1: 2432095; Supplier Part Number 2: 497-14646-ND
footprint QFN50P700X700X60_HS-49L (QFN, 48-Leads, Body 7,00x7,00mm, Pitch 0,50mm, Thermal Pad 5,60x5,60mm, IPC High Density)
pins: 1 VBAT (power) "Backup power supply", 2 PC13 (io) "PC13/RTC_TAMP1,RTC_TS,RTC_OUT,WKUP2", 3 PC14-OSC32_IN (io) "PC14-OSC32_IN(PC14)/OSC32_IN", 4 PC15-OSC32_OUT (io) "PC15-OSC32_OUT(PC15)/OSC32_OUT", 5 PF0-OSC_IN (io) "PF0-OSC_IN(PF0)/OSC_IN", 6 PF1-OSC_OUT (io) "PF1-OSC_OUT(PF1)/OSC_OUT", 7 NRST (io) "Device  reset  input  /  internal  reset  output  (active  low)", 8 VSSA (power) "Analog ground", 9 VDDA (power) "Analog power supply", 10 PA0 (io) "PA0/USART2_CTS,TIM2_CH1_ETR,COMP1_OUT,TSC_G1_IO1/ADC_IN0,COMP1_INM6,RTC_TAMP2,WKUP1", 11 PA1 (io) "PA1/USART2_RTS,TIM2_CH2,TSC_G1_IO2,EVENTOUT/ADC_IN1,COMP1_INP", 12 PA2 (io) "PA2/USART2_TX,TIM2_CH3,TIM15_CH1,COMP2_OUT,TSC_G1_IO3/ADC_IN2,COMP2_INM6", 13 PA3 (io) "PA3/USART2_RX,TIM2_CH4,TIM15_CH2,TSC_G1_IO4/ADC_IN3,COMP2_INP", 14 PA4 (io) "PA4/SPI1_NSS/I2S1_WS,USART2_CK,TIM14_CH1,TSC_G2_IO1/ADC_IN4,COMP1_INM4,COMP2_INM4,DAC1_OUT", 15 PA5 (io) "PA5/SPI1_SCK/I2S1_CK,CEC,TIM2_CH1_ETR,TSC_G2_IO2/ADC_IN5,COMP1_INM5,COMP2_INM5", 16 PA6 (io) "PA6/SPI1_MISO/I2S1_MCK,TIM3_CH1,TIM1_BKIN,TIM16_CH1,COMP1_OUT,TSC_G2_IO3,EVENTOUT/ADC_IN6", 17 PA7 (io) "PA7/SPI1_MOSI/I2S1_SD,TIM3_CH2,TIM14_CH1,TIM1_CH1N,TIM17_CH1,COMP2_OUT,TSC_G2_IO4,EVENTOUT/ADC_IN7", 18 PB0 (io) "PB0/TIM3_CH3,TIM1_CH2N,TSC_G3_IO2,EVENTOUT/ADC_IN8", 19 PB1 (io) "PB1/TIM3_CH4,TIM14_CH1,TIM1_CH3N,TSC_G3_IO3/ADC_IN9", 20 PB2 (io) "PB2/TSC_G3_IO4", 21 PB10 (io) "PB10/I2C2_SCL,CEC,TIM2_CH3,TSC_SYNC", 22 PB11 (io) "PB11/I2C2_SDA,TIM2_CH4,TSC_G6_IO1,EVENTOUT", 23 VSS (power) "Ground", 24 VDD (power) "Digital power supply", 25 PB12 (io) "PB12/SPI2_NSS,TIM1_BKIN,TSC_G6_IO2,EVENTOUT", 26 PB13 (io) "PB13/SPI2_SCK,TIM1_CH1N,TSC_G6_IO3", 27 PB14 (io) "PB14/SPI2_MISO,TIM1_CH2N,TIM15_CH1,TSC_G6_IO4", 28 PB15 (io) "PB15/SPI2_MOSI,TIM1_CH3N,TIM15_CH1N,TIM15_CH2/RTC_REFIN", 29 PA8 (io) "PA8/USART1_CK,TIM1_CH1,EVENTOUT,MCO", 30 PA9 (io) "PA9/USART1_TX,TIM1_CH2,TIM15_BKIN,TSC_G4_IO1", 31 PA10 (io) "PA10/USART1_RX,TIM1_CH3,TIM17_BKIN,TSC_G4_IO2", 32 PA11 (io) "PA11/USART1_CTS,TIM1_CH4,COMP1_OUT,TSC_G4_IO3,EVENTOUT", 33 PA12 (io) "PA12/USART1_RTS,TIM1_ETR,COMP2_OUT,TSC_G4_IO4,EVENTOUT", 34 PA13(SWDAT) (io) "PA13(SWDAT)/IR_OUT,SWDAT", 35 VSS (power) "Ground", 36 VDDIO2 (power) "Digital power supply", 37 PA14(SWCLK) (io) "PA14(SWCLK)/USART2_TX,SWCLK", 38 PA15 (io) "PA15/SPI1_NSS/I2S1_WS,USART2_RX,TIM2_CH1_ETR,EVENTOUT", 39 PB3 (io) "PB3/SPI1_SCK/I2S1_CK,TIM2_CH2,TSC_G5_IO1,EVENTOUT", 40 PB4 (io) "PB4/SPI1_MISO/I2S1_MCK,TIM3_CH1,TSC_G5_IO2,EVENTOUT", 41 PB5 (io) "PB5/SPI1_MOSI,I2S1_SD,I2C1_SMBA,TIM16_BKIN,TIM3_CH2", 42 PB6 (io) "PB6/I2C1_SCL,USART1_TX,TIM16_CH1N,TSC_G5_IO3", 43 PB7 (io) "PB7/I2C1_SDA,USART1_RX,TIM17_CH1N,TSC_G5_IO4", 44 BOOT0 (in) "Boot memory selection", 45 PB8 (io) "PB8/I2C1_SCL,CEC,TIM16_CH1,TSC_SYNC", 46 PB9 (io) "PB9/I2C1_SDA,IR_OUT,TIM17_CH1,EVENTOUT", 47 VSS (power) "Ground", 48 VDD (power) "Digital power supply", 49 VSS (power) "Ground"

## STM32F103CBU6
designator U?
STMICROELECTRONICS  STM32F103CBU6 ARM Cortex-M3, 72 MHz, 128 KB, 20 KB, 48, VFQFPN; Supplier 1: Farnell; Supplier 2: Mouser; Supplier Part Number 1: 2060891; Supplier Part Number 2: 511-STM32F103CBU6
footprint QFN50P700X700X60_HS-49L (QFN, 48-Leads, Body 7,00x7,00mm, Pitch 0,50mm, Thermal Pad 5,60x5,60mm, IPC High Density)
pins: 1 VBAT (power) "Backup power supply", 2 PC13 (io) "PC13/RTC_TAMP1,RTC_TS,RTC_OUT,WKUP2", 3 PC14-OSC32_IN (io) "PC14-OSC32_IN(PC14)/OSC32_IN", 4 PC15-OSC32_OUT (io) "PC15-OSC32_OUT(PC15)/OSC32_OUT", 5 PF0-OSC_IN (io) "PF0-OSC_IN(PF0)/OSC_IN", 6 PF1-OSC_OUT (io) "PF1-OSC_OUT(PF1)/OSC_OUT", 7 NRST (io) "Device  reset  input  /  internal  reset  output  (active  low)", 8 VSSA (power) "Analog ground", 9 VDDA (power) "Analog power supply", 10 PA0 (io) "PA0/USART2_CTS,TIM2_CH1_ETR,COMP1_OUT,TSC_G1_IO1/ADC_IN0,COMP1_INM6,RTC_TAMP2,WKUP1", 11 PA1 (io) "PA1/USART2_RTS,TIM2_CH2,TSC_G1_IO2,EVENTOUT/ADC_IN1,COMP1_INP", 12 PA2 (io) "PA2/USART2_TX,TIM2_CH3,TIM15_CH1,COMP2_OUT,TSC_G1_IO3/ADC_IN2,COMP2_INM6", 13 PA3 (io) "PA3/USART2_RX,TIM2_CH4,TIM15_CH2,TSC_G1_IO4/ADC_IN3,COMP2_INP", 14 PA4 (io) "PA4/SPI1_NSS/I2S1_WS,USART2_CK,TIM14_CH1,TSC_G2_IO1/ADC_IN4,COMP1_INM4,COMP2_INM4,DAC1_OUT", 15 PA5 (io) "PA5/SPI1_SCK/I2S1_CK,CEC,TIM2_CH1_ETR,TSC_G2_IO2/ADC_IN5,COMP1_INM5,COMP2_INM5", 16 PA6 (io) "PA6/SPI1_MISO/I2S1_MCK,TIM3_CH1,TIM1_BKIN,TIM16_CH1,COMP1_OUT,TSC_G2_IO3,EVENTOUT/ADC_IN6", 17 PA7 (io) "PA7/SPI1_MOSI/I2S1_SD,TIM3_CH2,TIM14_CH1,TIM1_CH1N,TIM17_CH1,COMP2_OUT,TSC_G2_IO4,EVENTOUT/ADC_IN7", 18 PB0 (io) "PB0/TIM3_CH3,TIM1_CH2N,TSC_G3_IO2,EVENTOUT/ADC_IN8", 19 PB1 (io) "PB1/TIM3_CH4,TIM14_CH1,TIM1_CH3N,TSC_G3_IO3/ADC_IN9", 20 PB2 (io) "PB2/TSC_G3_IO4", 21 PB10 (io) "PB10/I2C2_SCL,CEC,TIM2_CH3,TSC_SYNC", 22 PB11 (io) "PB11/I2C2_SDA,TIM2_CH4,TSC_G6_IO1,EVENTOUT", 23 VSS (power) "Ground", 24 VDD (power) "Digital power supply", 25 PB12 (io) "PB12/SPI2_NSS,TIM1_BKIN,TSC_G6_IO2,EVENTOUT", 26 PB13 (io) "PB13/SPI2_SCK,TIM1_CH1N,TSC_G6_IO3", 27 PB14 (io) "PB14/SPI2_MISO,TIM1_CH2N,TIM15_CH1,TSC_G6_IO4", 28 PB15 (io) "PB15/SPI2_MOSI,TIM1_CH3N,TIM15_CH1N,TIM15_CH2/RTC_REFIN", 29 PA8 (io) "PA8/USART1_CK,TIM1_CH1,EVENTOUT,MCO", 30 PA9 (io) "PA9/USART1_TX,TIM1_CH2,TIM15_BKIN,TSC_G4_IO1", 31 PA10 (io) "PA10/USART1_RX,TIM1_CH3,TIM17_BKIN,TSC_G4_IO2", 32 PA11 (io) "PA11/USART1_CTS,TIM1_CH4,COMP1_OUT,TSC_G4_IO3,EVENTOUT", 33 PA12 (io) "PA12/USART1_RTS,TIM1_ETR,COMP2_OUT,TSC_G4_IO4,EVENTOUT", 34 PA13(SWDAT) (io) "PA13(SWDAT)/IR_OUT,SWDAT", 35 VSS (power) "Ground", 36 VDDIO2 (power) "Digital power supply", 37 PA14(SWCLK) (io) "PA14(SWCLK)/USART2_TX,SWCLK", 38 PA15 (io) "PA15/SPI1_NSS/I2S1_WS,USART2_RX,TIM2_CH1_ETR,EVENTOUT", 39 PB3 (io) "PB3/SPI1_SCK/I2S1_CK,TIM2_CH2,TSC_G5_IO1,EVENTOUT", 40 PB4 (io) "PB4/SPI1_MISO/I2S1_MCK,TIM3_CH1,TSC_G5_IO2,EVENTOUT", 41 PB5 (io) "PB5/SPI1_MOSI,I2S1_SD,I2C1_SMBA,TIM16_BKIN,TIM3_CH2", 42 PB6 (io) "PB6/I2C1_SCL,USART1_TX,TIM16_CH1N,TSC_G5_IO3", 43 PB7 (io) "PB7/I2C1_SDA,USART1_RX,TIM17_CH1N,TSC_G5_IO4", 44 BOOT0 (in) "Boot memory selection", 45 PB8 (io) "PB8/I2C1_SCL,CEC,TIM16_CH1,TSC_SYNC", 46 PB9 (io) "PB9/I2C1_SDA,IR_OUT,TIM17_CH1,EVENTOUT", 47 VSS (power) "Ground", 48 VDD (power) "Digital power supply", 49 VSS (power) "Ground"

## TC2030-IDC-NL
designator P?  (value not drawn)
TagConnect TC2030-IDC-NL SWD Programming Connector
footprint TC2030-IDC-NL (TagConnector TC2030-IDC-NL)
pins: 1 VCC (power), 2 SWDIO (io), 3 nRESET (io), 4 SWCLK (io), 5 GND (power), 6 SWO (io)

## TSV991AIQ1T
designator U?
ST TSV991AIQ1T Rail-to-rail input/output 20 MHz GBP opamp; Supplier 1: Mouser; Supplier 2: Digi-Key; Supplier Part Number 1: 511-TSV991AIQ1T; Supplier Part Number 2: 497-15999-1-ND
footprint DFN6-1.3x1.6x0.55
pins: 1 IN- (in), 2 IN+ (in), 4 OUT (oc), 5 GND (power), 6 VCC (power)